# EAGLE library part MKS1868-6-0-1818 (library con-stocko)
Serie MKS 1850 Lötstifte In-line, Raster 2.5 mm, Stiftwannen, stehend, mit Rastlasche Source: http://www.stocko.de/de/index.php?seite=ka_rfk2_mks1850.html&rubrik=Katalog+-+RFK+2 rfk_1850.pdf
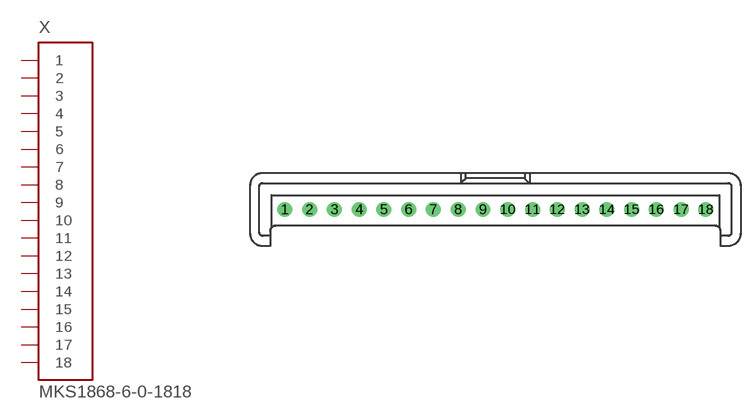
[diagram p5: symbol with the pads of MKS1868-6-0-1818; footprint MKS1868-6-0-1818]

Designator prefix X

## MKS1868-6-0-1818 (OC_FARNELL: unknown; OC_NEWARK: unknown)  [MKS1868-6-0-1818]
1  1  in
2  2  in
3  3  in
4  4  in
5  5  in
6  6  in
7  7  in
8  8  in
9  9  in
10  10  in
11  11  in
12  12  in
13  13  in
14  14  in
15  15  in
16  16  in
17  17  in
18  18  in

## Footprint MKS1868-6-0-1818 (pad centres in mm)
Serie MKS 1850 Lötstifte In-line, Raster 2.5 mm, Stiftwannen, stehend, mit Rastlasche Source: http://www.stocko.de/de/index.php?seite=ka_rfk2_mks1850.html&rubrik=Katalog+-+RFK+2 rfk_1850.pdf
drill 1 pad 1.422: 1 -21.25,0; 2 -18.75,0; 3 -16.25,0; 4 -13.75,0; 5 -11.25,0; 6 -8.75,0; 7 -6.25,0; 8 -3.75,0; 9 -1.25,0; 10 1.25,0; 11 3.75,0; 12 6.25,0; 13 8.75,0; 14 11.25,0; 15 13.75,0; 16 16.25,0; 17 18.75,0; 18 21.25,0